# Altium schematic symbol library LFCN-6000+.SchLib: 1 symbol
Pins are listed as number, name and electrical type; pins without a type are passive.

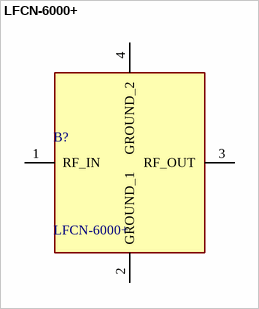
[diagram p0: symbol LFCN-6000+]

## LFCN-6000+
designator B?
6.8GHz Low Pass Ceramic Filter 50Ohm 4-SMD, No Lead; Manufacturer_Name: Mini-Circuits; Geometry.Height: 0.94mm; Mouser Part Number: 139-LFCN-6000; Mouser Price/Stock: https://www.mouser.co.uk/ProductDetail/Mini-Circuits/LFCN-6000%2b?qs=xZ%2FP%252Ba9zWqbGlRRPfKyqsA%3D%3D; Manufacturer_Part_Number: LFCN-6000+; Datasheet Link: https://www.digikey.com/en/products/detail/mini-circuits/LFCN-6000/13927548
footprint LFCN6000
pins: 1 RF_IN, 2 GROUND_1, 3 RF_OUT, 4 GROUND_2